# EAGLE library part AD5391BST (library usbmc)
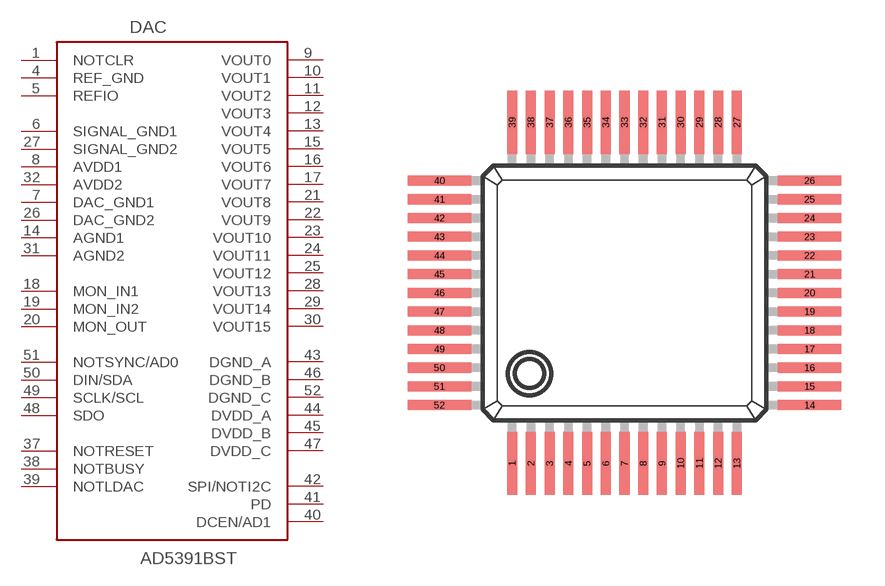
[diagram p0: symbol with the pads of QFP-52; footprint QFP-52]

Designator prefix DAC

## AD5391BSTBST  [QFP-52]
1  NOTCLR
4  REF_GND
5  REFIO
6  SIGNAL_GND1
7  DAC_GND1
8  AVDD1
9  VOUT0  out
10  VOUT1  out
11  VOUT2  out
12  VOUT3  out
13  VOUT4  out
14  AGND1
15  VOUT5  out
16  VOUT6  out
17  VOUT7  out
18  MON_IN1
19  MON_IN2
20  MON_OUT
21  VOUT8  out
22  VOUT9  out
23  VOUT10  out
24  VOUT11  out
25  VOUT12  out
26  DAC_GND2
27  SIGNAL_GND2
28  VOUT13  out
29  VOUT14  out
30  VOUT15  out
31  AGND2
32  AVDD2
37  NOTRESET
38  NOTBUSY
39  NOTLDAC
40  DCEN/AD1
41  PD
42  SPI/NOTI2C
43  DGND_A
44  DVDD_A
45  DVDD_B
46  DGND_B
47  DVDD_C
48  SDO
49  SCLK/SCL
50  DIN/SDA
51  NOTSYNC/AD0
52  DGND_C

## Footprint QFP-52 (pad centres in mm)
Quad Flat Package
smd 0.35 x 2.2: 1 -3.575,-6.25; 2 -2.925,-6.25; 3 -2.275,-6.25; 4 -1.625,-6.25; 5 -0.975,-6.25; 6 -0.325,-6.25; 7 0.325,-6.25; 8 0.975,-6.25; 9 1.625,-6.25; 10 2.275,-6.25; 11 2.925,-6.25; 12 3.575,-6.25; 13 4.225,-6.25; 27 4.225,5.6; 28 3.575,5.6; 29 2.925,5.6; 30 2.275,5.6; 31 1.625,5.6; 32 0.975,5.6; 33 0.325,5.6; 34 -0.325,5.6; 35 -0.975,5.6; 36 -1.625,5.6; 37 -2.275,5.6; 38 -2.925,5.6; 39 -3.575,5.6
smd 2.2 x 0.35: 14 6.75,-4.225; 15 6.75,-3.575; 16 6.75,-2.925; 17 6.75,-2.275; 18 6.75,-1.625; 19 6.75,-0.975; 20 6.75,-0.325; 21 6.75,0.325; 22 6.75,0.975; 23 6.75,1.625; 24 6.75,2.275; 25 6.75,2.925; 26 6.75,3.575; 40 -6.1,3.575; 41 -6.1,2.925; 42 -6.1,2.275; 43 -6.1,1.625; 44 -6.1,0.975; 45 -6.1,0.325; 46 -6.1,-0.325; 47 -6.1,-0.975; 48 -6.1,-1.625; 49 -6.1,-2.275; 50 -6.1,-2.925; 51 -6.1,-3.575; 52 -6.1,-4.225